# EAGLE library part SSM2142 (library opamps)
SSM2142: Balanced line driver (Analog Devices) ±15V, 50mA, 20kHz
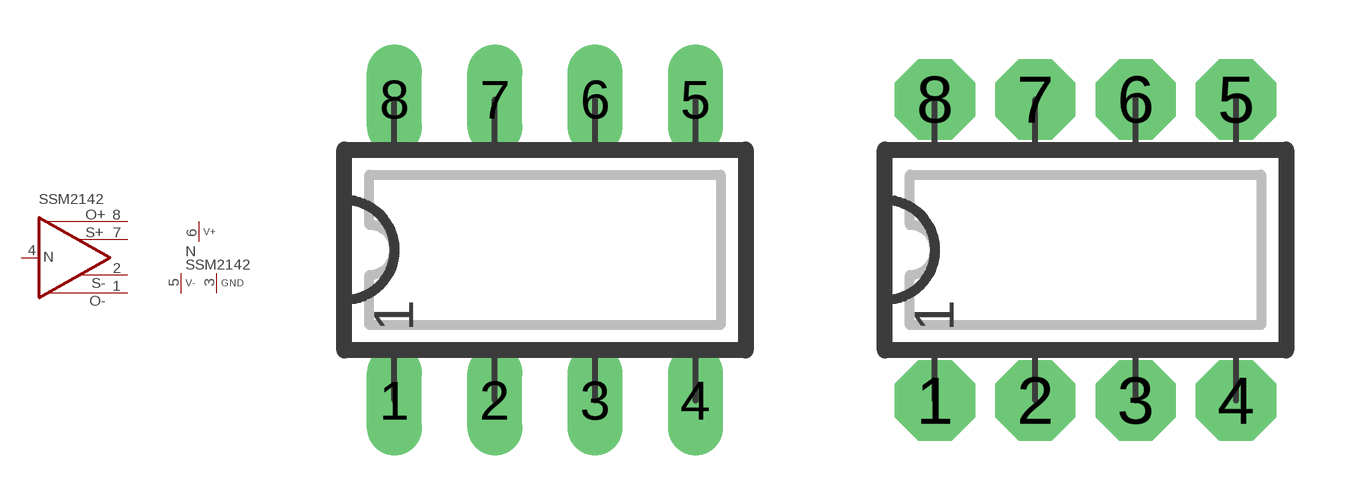
[diagram p239: symbol with the pads of DIP08L; footprints DIP08L, DIP08N]

Designator prefix N; gates P=V+-GND A=SSM2142

## SSM2142  [DIP08L]
1  A:OUT-
2  A:SENSE-
3  P:GND  pwr
4  A:OP+  in
5  P:V-  pwr
6  P:V+  pwr
7  A:SENSE+
8  A:OUT+  out

## SSM2142L  [DIP08L]
Pads as for DIP08L

## SSM2142N  [DIP08N]
Pads as for DIP08L

## SSM2142R  [DIP08R]
Pads as for DIP08L

## SSM2142S  [SO16W]
3  A:OUT-
4  A:SENSE-
5  P:GND  pwr
6  A:OP+  in
11  P:V-  pwr
12  P:V+  pwr
13  A:SENSE+
14  A:OUT+  out

## Footprint DIP08L (pad centres in mm)
DIP-8, long pads Standard IC package, 8 pins
drill 0.813 pad 1.397 long: 1 -3.81,-3.81; 2 -1.27,-3.81; 3 1.27,-3.81; 4 3.81,-3.81; 5 3.81,3.81; 6 1.27,3.81; 7 -1.27,3.81; 8 -3.81,3.81

## Footprint DIP08N (pad centres in mm)
DIP-8 Standard IC package, 8 pins
drill 0.813 pad 2.032 octagon: 1 -3.81,-3.81; 2 -1.27,-3.81; 3 1.27,-3.81; 4 3.81,-3.81; 5 3.81,3.81; 6 1.27,3.81; 7 -1.27,3.81; 8 -3.81,3.81

## Footprint DIP08R (pad centres in mm)
DIP-8, reduced pads Standard IC package, 8 pins
drill 0.813 pad 1.397 square: 1 -3.81,-3.81; 2 -1.27,-3.81; 3 1.27,-3.81; 4 3.81,-3.81; 5 3.81,3.81; 6 1.27,3.81; 7 -1.27,3.81; 8 -3.81,3.81

## Footprint SO16W (pad centres in mm)
SO-16 wide, SMD SOIC IC package (0.3" wide), 16 pins
smd 0.635 x 1.778: 1 -4.445,-4.763; 2 -3.175,-4.763; 3 -1.905,-4.763; 4 -0.635,-4.763; 5 0.635,-4.763; 6 1.905,-4.763; 7 3.175,-4.763; 8 4.445,-4.763; 9 4.445,4.763; 10 3.175,4.763; 11 1.905,4.763; 12 0.635,4.763; 13 -0.635,4.763; 14 -1.905,4.763; 15 -3.175,4.763; 16 -4.445,4.763